# Altium schematic symbol library LED_DOUBLE_V1_RG_CA.SchLib: 1 symbol
Pins are listed as number, name and electrical type; pins without a type are passive.

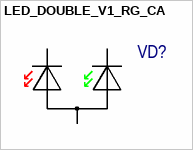
[diagram p0: symbol LED_DOUBLE_V1_RG_CA]

## LED_DOUBLE_V1_RG_CA
designator VD?
ManufacturerPartNumber: ManufacturerPartNumber
pins: 1, 2, 3